# EAGLE library part LCD_NHD-24064WG-AGYH-VZ (library custom)
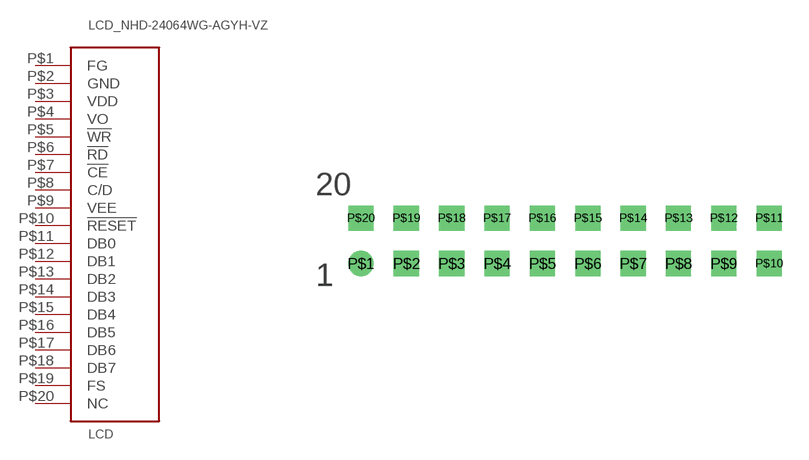
[diagram p4: symbol with the pads of HEADER10X2; footprint HEADER10X2]

Designator prefix LCD

## LCD_NHD-24064WG-AGYH-VZ  [HEADER10X2]
P$1  FG  nc
P$2  GND  in
P$3  VDD  in
P$4  VO  in
P$5  !WR  in
P$6  !RD  in
P$7  !CE  in
P$8  C/D  in
P$9  VEE  out
P$10  !RESET  in
P$11  DB0
P$12  DB1
P$13  DB2
P$14  DB3
P$15  DB4
P$16  DB5
P$17  DB6
P$18  DB7
P$19  FS  in
P$20  NC  nc

## Footprint HEADER10X2 (pad centres in mm)
drill 0.9 round: P$1 -11.43,-1.27
drill 0.9 square: P$2 -8.89,-1.27; P$3 -6.35,-1.27; P$4 -3.81,-1.27; P$5 -1.27,-1.27; P$6 1.27,-1.27; P$7 3.81,-1.27; P$8 6.35,-1.27; P$9 8.89,-1.27; P$10 11.43,-1.27; P$11 11.43,1.27; P$12 8.89,1.27; P$13 6.35,1.27; P$14 3.81,1.27; P$15 1.27,1.27; P$16 -1.27,1.27; P$17 -3.81,1.27; P$18 -6.35,1.27; P$19 -8.89,1.27; P$20 -11.43,1.27